# Altium schematic symbol library symbols.SchLib: 12 symbols
Pins are listed as number, name and electrical type; pins without a type are passive.

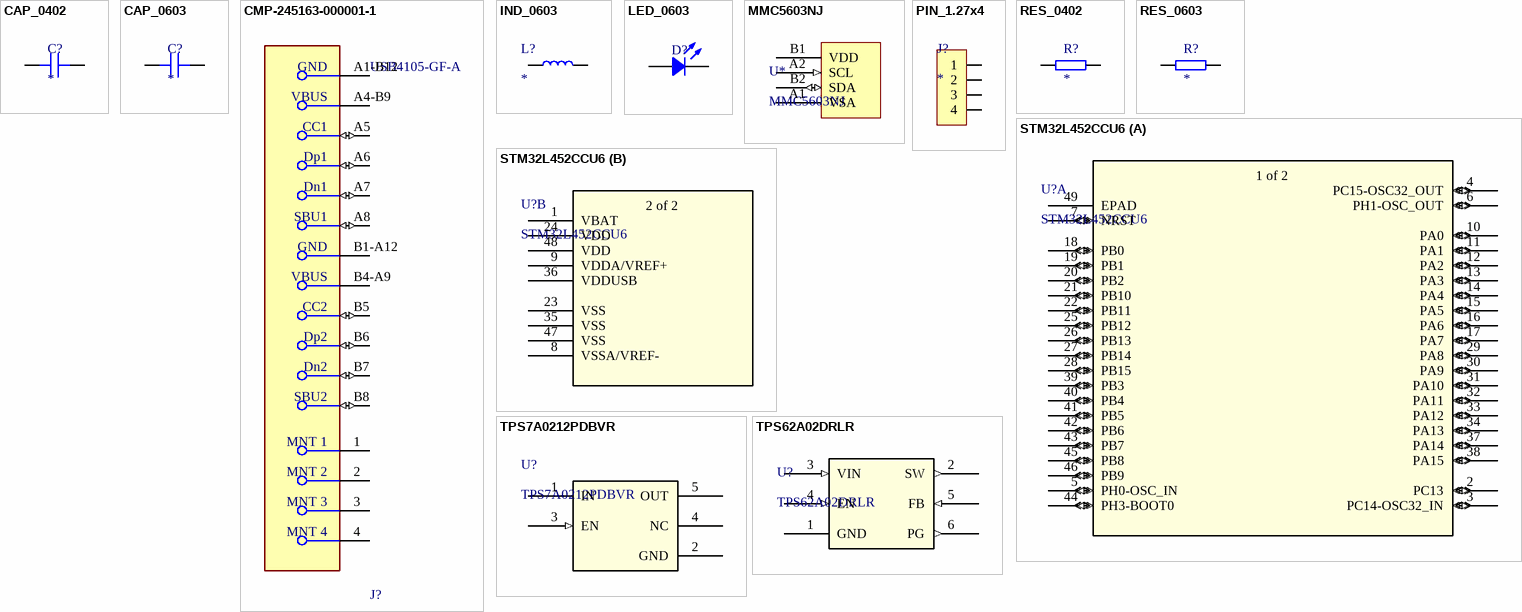
[diagram p0: symbols CAP_0402 to TPS62A02DRLR]

## CAP_0402
designator C?
Capacitor SMD 0402; Voltage: 50V; Capacitance: *
footprint CAP_0402 (Chip Capacitor, 2-Leads, Body 1.02x0.51mm, IPC Medium Density)
pins: 1, 2

## CAP_0603
designator C?
Capacitor SMD 0603; Voltage: 50V; Capacitance: *
footprint CAP_0603 (Chip Capacitor, 2-Leads, Body 1.60x0.80mm, IPC Medium Density)
pins: 1, 2

## CMP-245163-000001-1
designator J?, comment USB4105-GF-A
CONN RCPT USB2.0 TYPEC 5A; Manufacturer: GCT; Voltage Rating: 20V; Is Female: yes; Current Rating: 5/6.25/1.25/0.25A; Number Of Contacts: 16; Conn Orientation: Right Angle; Device Class L1: Connectors; Category: Conn; Lead Free: Yes; RoHS: TRUE; Temperature Range High: +85°C; Digikey Description: CONN RCPT USB2.0 TYPEC 5A; Device Class L3: unset; ComponentLink2Description: Datasheet; Manufacturer Part Number: USB4105-GF-A; Package: 0; Usb Standard: USB 2.0; Device Class L2: USB Connectors; Automotive: No; Temperature Range Low: -40°C; Height: 3.46mm; Temperature: -40°C to +85°C; Contact Material: Gold,Nickel; ComponentLink2URL: https://gct.co/files/drawings/usb4105.pdf; Octopart: https://octopart.com/usb4105-gf-a-gct-106627878
footprint FP-USB4105-GF-A-MFG
pins: 1 MNT 1, 2 MNT 2, 3 MNT 3, 4 MNT 4, A1-B12 GND (power), A4-B9 VBUS (power), A5 CC1 (io), A6 Dp1 (io), A7 Dn1 (io), A8 SBU1 (io), B1-A12 GND (power), B4-A9 VBUS (power), B5 CC2 (io), B6 Dp2 (io), B7 Dn2 (io), B8 SBU2 (io)

## IND_0603
designator L?
Inductor SMD 0603; Inductance: *
footprint IND_0603 (Chip Inductor, 2-Leads, Body 1.65x0.99mm, IPC Medium Density)
pins: 1, 2

## LED_0603
designator D?
LED SMD 0603
footprint LED_0603 (Chip Diode, 2-Leads, Body 1.60x0.80mm, IPC Medium Density)
pins: 1, 2

## MMC5603NJ
designator U*
3-AXIS Amr Magnetic Sensor; Manufacturer: Memsic; Supplier 1: Digi-Key; Manufacturer Part Number: MMC5603NJ; RoHS: Yes; Stock 1: 9156; Pricing 1: 1=1.12000, 5=1.06600, 10=0.92800, 25=0.81520, 50=0.67720, 100=0.57680, 500=0.50160, 1000=0.43890, 5000=0.38874 (USD); Supplier Part Number 1: 1267-MMC5603NJCT-ND
footprint WLP4x2
pins: A1 VSA (power), A2 SCL (in), B1 VDD (power), B2 SDA (io)

## PIN_1.27x4
designator J?
footprint PIN_1.27x4 (Pin Header, pitch 1.27 mm, THT)
pins: 1, 2, 3, 4

## RES_0402
designator R?
Resistor SMD 0402; Resistance: *
footprint RES_0402_RF (Chip Resistor, 2-Leads, Body 1.0x0.5mm, IPC High Density)
pins: 1, 2

## RES_0603
designator R?
Resistor SMD 0603; Resistance: *
footprint RES_0603 (Chip Resistor, 2-Leads, Body 1.60x0.80mm, IPC Medium Density)
pins: 1, 2

## STM32L452CCU6
designator U?
No Description Available; Mfr_Name: STMicroelectronics; Copyright: Copyright (C) 2023 Ultra Librarian. All rights reserved.; Manufacturer_Part_Number: STM32L452CCU6; RefDes: RefDes; Type: DEV
footprint UFQFPN48-7x7mm_STM
footprint UFQFPN48-7x7mm_STM-L
footprint UFQFPN48-7x7mm_STM-M
part A pins: 2 PC13 (io), 3 PC14-OSC32_IN (io), 4 PC15-OSC32_OUT (io), 5 PH0-OSC_IN (io), 6 PH1-OSC_OUT (io), 7 NRST (io), 10 PA0 (io), 11 PA1 (io), 12 PA2 (io), 13 PA3 (io), 14 PA4 (io), 15 PA5 (io), 16 PA6 (io), 17 PA7 (io), 18 PB0 (io), 19 PB1 (io), 20 PB2 (io), 21 PB10 (io), 22 PB11 (io), 25 PB12 (io), 26 PB13 (io), 27 PB14 (io), 28 PB15 (io), 29 PA8 (io), 30 PA9 (io), 31 PA10 (io), 32 PA11 (io), 33 PA12 (io), 34 PA13 (io), 37 PA14 (io), 38 PA15 (io), 39 PB3 (io), 40 PB4 (io), 41 PB5 (io), 42 PB6 (io), 43 PB7 (io), 44 PH3-BOOT0 (io), 45 PB8 (io), 46 PB9 (io), 49 EPAD
part B pins: 1 VBAT (power), 8 VSSA/VREF- (power), 9 VDDA/VREF+ (power), 23 VSS (power), 24 VDD (power), 35 VSS (power), 36 VDDUSB (power), 47 VSS (power), 48 VDD (power)
part A text: 1 of 2
part B text: 2 of 2

## TPS7A0212PDBVR
designator U?
No Description Available; Mfr_Name: Texas Instruments; Copyright: Copyright (C) 2023 Ultra Librarian. All rights reserved.; Manufacturer_Part_Number: TPS7A0212PDBVR; RefDes: RefDes; Type: DEV
footprint SOT23_DBV_TEX
footprint SOT23_DBV_TEX-L
footprint SOT23_DBV_TEX-M
pins: 1 IN (power), 2 GND (power), 3 EN (in), 4 NC, 5 OUT (power)

## TPS62A02DRLR
designator U?
No Description Available; Mfr_Name: Texas Instruments; Copyright: Copyright (C) 2023 Ultra Librarian. All rights reserved.; Manufacturer_Part_Number: TPS62A02DRLR; RefDes: RefDes; Type: DEV
footprint SOT-5X3-6_DRL_TEX
footprint SOT-5X3-6_DRL_TEX-L
footprint SOT-5X3-6_DRL_TEX-M
pins: 1 GND, 2 SW (out), 3 VIN (in), 4 EN (in), 5 FB (in), 6 PG (out)